# Altium footprint library heatsink.PCBLIB: 35 footprints (part 3 of 3)
Each footprint in its own frame and in the unit in brackets; x right, y up, seen from the top. Pads: shape width x height; smd on the part's side, far side on the other; paste and mask are expansions set on the pad; w line width, h text height; cw(c..) or ccw(c..) is an arc to the next point about the centre after c.
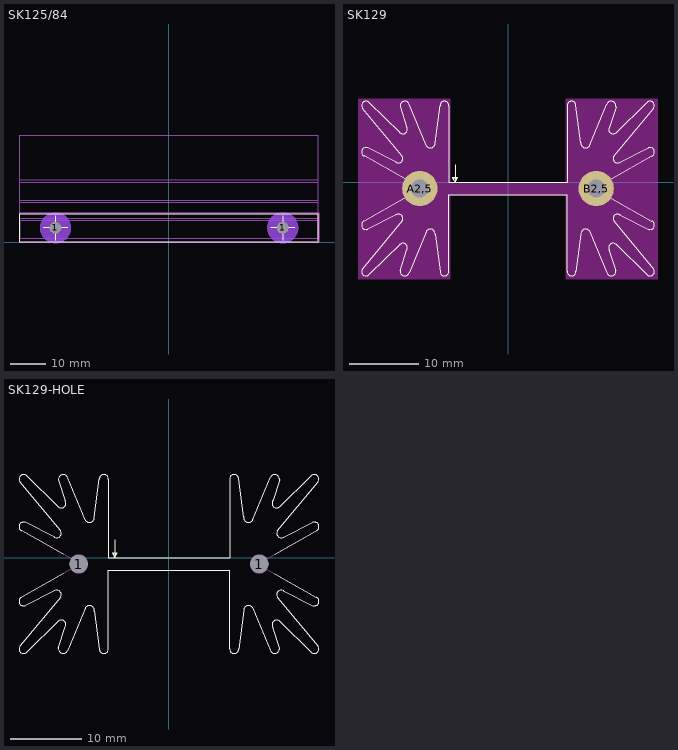
[diagram p2: the footprints below, top view; thin cyan lines are the x and y axes]

## SK125/84 [mil]
pads (2):
  round 130 hole 130: 1(-1256,157) 1(1263,157)
Top Layer keep-out:
  lines w5: -1660,-10 -1660,325 1665,325 1665,-10 -1660,-10
Bottom Layer keep-out:
  circle w106: c-1256,157 r120
  circle w106: c1263,157 r120
Top Overlay:
  lines w2: -1391,157 -1121,157 ; -1256,22 -1256,292 ; 1128,157 1398,157 ; 1263,22 1263,292
  lines w6: -1650,0 1657,0 1657,315 -1650,315 -1650,0
Mechanical 16:
  lines w6: 1657,315 1657,265 ; -1650,240 1657,240 ; -1650,240 -1650,40 1657,40 1657,240 ; -1650,240 -1650,265 ; -1650,265 1657,265 ; -1650,265 -1650,440 ; -1650,440 1657,440 ; -1650,440 -1650,465 ; -1650,465 1657,465 ; -1650,465 -1650,665 ; -1650,665 1657,665 ; -1650,665 -1650,690 ; -1650,690 1657,690 ; -1650,690 -1650,1185 1657,1185 1657,690 ; 1657,240 1657,265 ; 1657,265 1657,440 ; 1657,440 1657,465 ; 1657,465 1657,665 ; 1657,665 1657,690
  text "SK125/84" at -1600,1050 h155
Via Holes:
  lines w5: -1660,-10 -1660,325 1665,325 1665,-10 -1655,-10
Mechanical 27:
  lines w5: -1660,-10 -1660,325 1665,325 1665,-10 -1660,-10

## SK129 [mil]
pads (2):
  round 200 hole 100: A2,5(-500,-35) B2,5(500,-35)
Top Layer keep-out:
  rectangle: -850,-550 -325,475
  rectangle: 325,-550 850,475
  rectangle: -325,-75 325,0
Top Overlay:
  lines w6: -825,-491 -600,-218 ; -825,-490 ccw(c-805,-505) -785,-520 ; -825,420 cw(c-805,435) -785,450 ; -825,421 -600,148 ; -816,-220 -585,-90 ; -816,150 -585,20 ; -815.38,-219.17 ccw(c-805,-242) -795,-264.99 -633,-183 ; -815.38,149.17 cw(c-805,172) -795,194.99 -633,113 ; -787,-522 -612,-352 ; -787,452 -612,282 ; -635.22,-184.15 cw(c-621,-205) -600,-219 ; -635.22,114.15 ccw(c-621,135) -600,149 ; -615,-355 cw(c-595,-370) -575,-385 ; -615,285 ccw(c-595,300) -575,315 ; -612,-500 -573,-381 ; -612,430 -573,311 ; -611.56,-498.57 ccw(c-584.99,-503) -559.99,-513 -464,-280 ; -611.56,428.57 cw(c-584.99,433) -559.99,443 -464,210 ; -465,-282 cw(c-440,-292) -413.44,-296.43 ; -465,212 ccw(c-440,222) -413.44,226.43 ; -413,-294 -385,-507 ; -413,224 -385,437 ; -385,-505 ccw(c-360,-505) -335,-505 -335,-70 335,-70 335,-505 ccw(c360,-505) 385,-505 ; -385,435 cw(c-360,435) -335,435 -335,0 -300,0 ; -300,100 -300,20 ; 385,-507 413,-294 ; 385,435 ccw(c360,435) 335,435 335,0 -300,0 ; 385,437 413,224 ; 413.44,-296.43 cw(c440,-292) 465,-282 ; 413.44,226.43 ccw(c440,222) 465,212 ; 464,-280 560,-513 ccw(c584.99,-503) 611.55,-498.57 ; 464,210 560,443 cw(c584.99,433) 611.55,428.57 ; 573,-381 612,-500 ; 573,311 612,430 ; 575,-385 cw(c595,-370) 615,-355 ; 575,315 ccw(c595,300) 615,285 ; 585,-90 816,-220 ; 585,20 816,150 ; 600,-219 cw(c620.99,-205) 635.21,-184.15 ; 600,-218 825,-491 ; 600,148 825,421 ; 600,149 ccw(c621,135) 635.22,114.14 ; 612,-352 787,-522 ; 612,282 787,452 ; 633,-183 795,-265 ccw(c805,-242) 815.38,-219.16 ; 633,113 795,195 cw(c805,172) 815.38,149.16 ; 785,-520 ccw(c805,-505) 825,-490 ; 785,450 cw(c805,435) 825,420 ; -310,25 -290,25 ; -310,25 -300,5 ; -310,25 -315,25 -300,0 ; -310,25 -300,20 ; -300,0 -285,25 -290,25 ; -300,0 -300,5 ; -300,5 -290,25 ; -300,5 -300,20 ; -300,20 -290,25
Mechanical 13:
  text "2,5" at 450,-150 h77.5
  text "2,5" at -550,-150 h77.5
Mechanical 16:
  lines w6: -585,-90 -540,-65 ccw(c-500,-35) -540,-5 -585,20 ; 585,-90 540,-65 cw(c500,-35) 540,-5 585,20
Via Holes:
  rectangle: -850,-550 -325,475
  rectangle: -325,-75 325,0
  rectangle: 325,-550 850,475

## SK129-HOLE [mil]
pads (2):
  round 100 hole 100: 1(-500,-35) 1(500,-35)
Top Overlay:
  lines w6: -825,-491 -600,-218 ; -825,-490 ccw(c-805,-505) -785,-520 ; -825,420 cw(c-805,435) -785,450 ; -825,421 -600,148 ; -816,-220 -585,-90 ; -816,150 -585,20 ; -815.38,-219.17 ccw(c-805,-242) -795,-264.99 -633,-183 ; -815.38,149.17 cw(c-805,172) -795,194.99 -633,113 ; -787,-522 -612,-352 ; -787,452 -612,282 ; -635.22,-184.15 cw(c-621,-205) -600,-219 ; -635.22,114.15 ccw(c-621,135) -600,149 ; -615,-355 cw(c-595,-370) -575,-385 ; -615,285 ccw(c-595,300) -575,315 ; -612,-500 -573,-381 ; -612,430 -573,311 ; -611.56,-498.57 ccw(c-585,-503) -559.99,-513 -464,-280 ; -611.56,428.57 cw(c-585,433) -559.99,443 -464,210 ; -465,-282 cw(c-440,-292) -413.44,-296.43 ; -465,212 ccw(c-440,222) -413.44,226.43 ; -413,-294 -385,-507 ; -413,224 -385,437 ; -385,-505 ccw(c-360,-505) -335,-505 -335,-70 335,-70 335,-505 ccw(c360,-505) 385,-505 ; -385,435 cw(c-360,435) -335,435 -335,0 -300,0 ; -300,100 -300,20 ; 385,-507 413,-294 ; 385,435 ccw(c360,435) 335,435 335,0 -300,0 ; 385,437 413,224 ; 413.44,-296.43 cw(c440,-292) 465,-282 ; 413.44,226.43 ccw(c440,222) 465,212 ; 464,-280 560,-513 ccw(c585,-503) 611.55,-498.57 ; 464,210 560,443 cw(c585,433) 611.55,428.57 ; 573,-381 612,-500 ; 573,311 612,430 ; 575,-385 cw(c595,-370) 615,-355 ; 575,315 ccw(c595,300) 615,285 ; 585,-90 816,-220 ; 585,20 816,150 ; 600,-219 cw(c620.99,-205) 635.21,-184.15 ; 600,-218 825,-491 ; 600,148 825,421 ; 600,149 ccw(c621,135) 635.22,114.14 ; 612,-352 787,-522 ; 612,282 787,452 ; 633,-183 795,-265 ccw(c805,-242) 815.38,-219.16 ; 633,113 795,195 cw(c805,172) 815.38,149.16 ; 785,-520 ccw(c805,-505) 825,-490 ; 785,450 cw(c805,435) 825,420 ; -310,25 -290,25 ; -310,25 -300,5 ; -310,25 -315,25 -300,0 ; -310,25 -300,20 ; -300,0 -285,25 -290,25 ; -300,0 -300,5 ; -300,5 -290,25 ; -300,5 -300,20 ; -300,20 -290,25
Mechanical 16:
  lines w6: -585,-90 -540,-65 ccw(c-500,-35) -540,-5 -585,20 ; 585,-90 540,-65 cw(c500,-35) 540,-5 585,20